# EAGLE library part MCP40D18-50K (library rfops)
Microchip Digital Pot
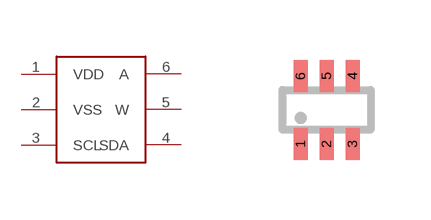
[diagram p7: symbol with the pads of SC70-6L; footprint SC70-6L]

Designator prefix IC

## MCP40D18-50K  [SC70-6L]
1  VDD  pwr
2  VSS  pwr
3  SCL  in
4  SDA  in
5  W  pas
6  A  pas

## Footprint SC70-6L (pad centres in mm)
SC-70 Package
smd 0.35 x 0.8: 1 -0.65,-0.85; 2 0,-0.85; 3 0.65,-0.85; 4 0.65,0.85; 5 0,0.85; 6 -0.65,0.85